# EAGLE library part UM6K34N1 (library mylibrary)
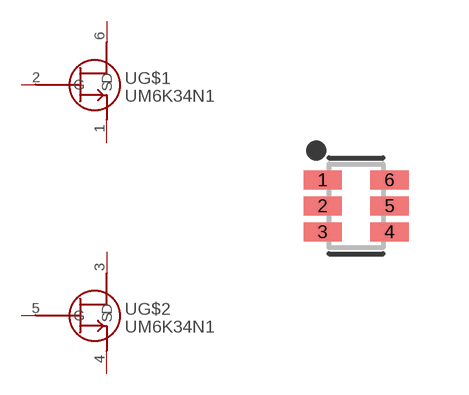
[diagram p5: symbol with the pads of SOTFL65P210X100-6; footprint SOTFL65P210X100-6]

Designator prefix -; gates G$1=FET-N G$2=FET-N

## UM6K34N1  [SOTFL65P210X100-6]
1  G$1:S
2  G$1:G
3  G$2:D
4  G$2:S
5  G$2:G
6  G$1:D

## Footprint SOTFL65P210X100-6 (pad centres in mm)
6-SOTFL, 0.65 mm pitch, 2.1 mm span, 2 X 1.25 X 1 mm body 6-pin SOTFL package with 0.65 mm pitch, 2.1 mm span with body size 2 X 1.25 X 1 mm
smd 0.956 x 0.472: 1 -0.836,0.65; 2 -0.836,0; 3 -0.836,-0.65; 4 0.836,-0.65; 5 0.836,0; 6 0.836,0.65